# Altium schematic symbol library 1-10V_PIR_V1.0.SchLib: 6 symbols
Pins are listed as number, name and electrical type; pins without a type are passive.

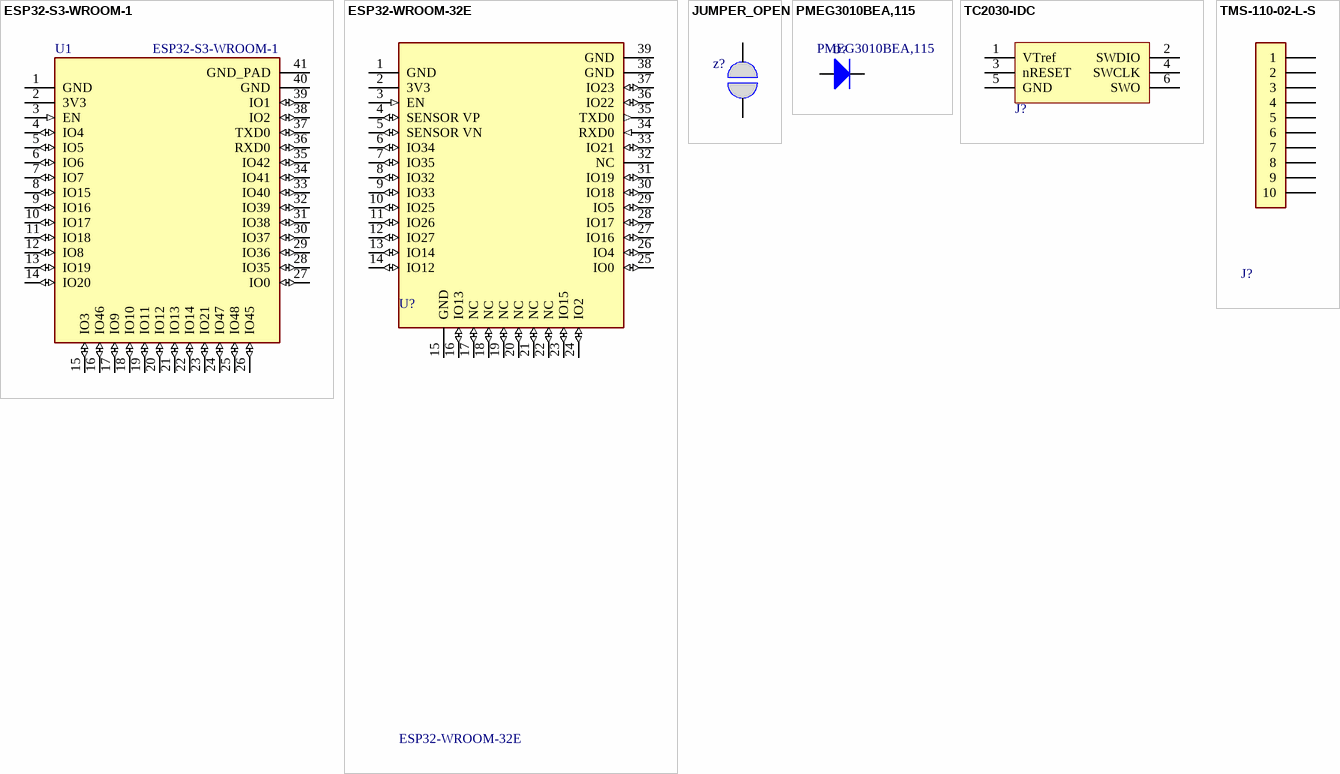
[diagram p0: symbols ESP32-S3-WROOM-1 to TMS-110-02-L-S]

## ESP32-S3-WROOM-1
designator U1
WiFi Module with integrated antenna; Manufacturer: Espressif; Availability: Unavailable; Value: *; Manufacturer Part Number: ESP32-S3-WROOM-1; Package: None; Price: None
footprint ESP32-S3-WROOM-1
pins: 1 GND (power), 2 3V3 (power), 3 EN (in), 4 IO4 (io), 5 IO5 (io), 6 IO6 (io), 7 IO7 (io), 8 IO15 (io), 9 IO16 (io), 10 IO17 (io), 11 IO18 (io), 12 IO8 (io), 13 IO19 (io), 14 IO20 (io), 15 IO3 (io), 16 IO46 (io), 17 IO9 (io), 18 IO10 (io), 19 IO11 (io), 20 IO12 (io), 21 IO13 (io), 22 IO14 (io), 23 IO21 (io), 24 IO47 (io), 25 IO48 (io), 26 IO45 (io), 27 IO0 (io), 28 IO35 (io), 29 IO36 (io), 30 IO37 (io), 31 IO38 (io), 32 IO39 (io), 33 IO40 (io), 34 IO41 (io), 35 IO42 (io), 36 RXD0 (io), 37 TXD0 (io), 38 IO2 (io), 39 IO1 (io), 40 GND (power), 41 GND_PAD (power)

## ESP32-WROOM-32E
designator U?
Manufacturer: Espressif Systems; Manufacturer Part Number: ESP32-WROOM-32E-N16
footprint ESP32-WROOM-32E-Footprint-1
pins: 1 GND (power), 2 3V3 (power), 3 EN (in), 4 SENSOR VP (io), 5 SENSOR VN (io), 6 IO34 (io), 7 IO35 (io), 8 IO32 (io), 9 IO33 (io), 10 IO25 (io), 11 IO26 (io), 12 IO27 (io), 13 IO14 (io), 14 IO12 (io), 15 GND (power), 16 IO13 (io), 17 NC (io), 18 NC (io), 19 NC (io), 20 NC (io), 21 NC (io), 22 NC (io), 23 IO15 (io), 24 IO2 (io), 25 IO0 (io), 26 IO4 (io), 27 IO16 (io), 28 IO17 (io), 29 IO5 (io), 30 IO18 (io), 31 IO19 (io), 32 NC, 33 IO21 (io), 34 RXD0 (in), 35 TXD0 (out), 36 IO22 (io), 37 IO23 (io), 38 GND (power), 39 GND (power)

## JUMPER_OPEN
designator z?, comment SHORT  (value not drawn)
footprint PAD_JUMPER (Footprint not found)
pins: 1, 2

## PMEG3010BEA,115
designator D?
Schottky Rectifier, Barrier, 30 V, 1 A, Single, SOD-323, 2 Pins, 560 mV; Manufacturer: NEXPERIA; Current: 1A; Voltage: 30V; Pb Free: Yes; Part Number: PMEG3010BEA,115; Temperature: -65 - +150C; Component Type: Standard; Case: SOD323; ComponentLink2Description: Datasheet; STATUS: https://4donline.ihs.com/images/VipMasterIC/IC/PHGL/PHGLS19535/PHGLS19689-1.pdf?hkey=6D3A4C79FDBF58556ACFDE234799DDF0
footprint SOD323
pins: 1 K, 2 A

## TC2030-IDC
designator J?  (value not drawn)  (no BOM)
TC2030-IDC 6-Pin Tag-Connect Plug-of-Nails™ Spring-Pin Cable with Legs
footprint TC2030-IDC (Tag-Connect 6-Pin with Legs (PN# TC2030-IDC-NL))
pins: 1 VTref, 2 SWDIO, 3 nRESET, 4 SWCLK, 5 GND, 6 SWO
1 alternate drawing of the same symbol

## TMS-110-02-L-S
designator J?  (value not drawn)
Pin Header, Vertical, Board-to-Board, 1.27 mm, 1 Rows, 10 Contacts, Through Hole, TMS; Manufacturer: SAMTEC; Datasheet Link: http://suddendocs.samtec.com/prints/tms-1xx-xx-xx-x-xx-xxx-mkt.pdf; Manufacturer Part Number: TMS-110-02-L-S
footprint SAMTEC_TMS-110-02-L-S (Footprint not found)
pins: 1, 2, 3, 4, 5, 6, 7, 8, 9, 10